# Altium schematic symbol library SSCI_Dec-09.SchLib: 2 symbols
Pins are listed as number, name and electrical type; pins without a type are passive.

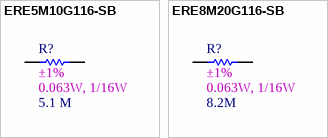
[diagram p0: symbols ERE5M10G116-SB to ERE8M20G116-SB]

## ERE5M10G116-SB
designator R?, comment value 5.1 M  2nd Auxiliary Field: ±1%  1st Auxiliary Field: 0.063W, 1/16W  (hidden comment: RES SMD 5.1M OHM 1% 1/16W 0402)
Manufacturer: Vishay Dale; Vendor Part Number: 541-2967-1-ND; Manufacturer Part Number: CRCW04025M10FKED; Internal Part Number: ERE5M10G116-SB; Vendor Name: Digi-Key; 3rd Auxiliary Field: ROHS3 Compliant; 4th Auxiliary Field: AEC-Q200; Component Height (mm): 0.40mm; Temp Co: -55°C ~ 155°C; Part Type: RES SMD 5.1M OHM 1% 1/16W 0402
footprint SMDR0402
pins: 1, 2

## ERE8M20G116-SB
designator R?, comment value 8.2M  2nd Auxiliary Field: ±1%  1st Auxiliary Field: 0.063W, 1/16W  (hidden comment: RES SMD 8.2M OHM 1% 1/16W 0402)
Manufacturer: Vishay Dale; Vendor Part Number: 541-CRCW04028M20FKEDCT-ND; Manufacturer Part Number: CRCW04028M20FKED; Internal Part Number: ERE8M20G116-SB; Vendor Name: Digi-Key; 3rd Auxiliary Field: ROHS3 Compliant; 4th Auxiliary Field: AEC-Q200; Component Height (mm): 0.40mm; Temp Co: -55°C ~ 155°C; Part Type: RES SMD 8.2M OHM 1% 1/16W 0402
footprint SMDR0402
pins: 1, 2